# Altium footprint library bobine.PcbLib: 1 footprints
Each footprint in its own frame and in the unit in brackets; x right, y up, seen from the top. Pads: shape width x height; smd on the part's side, far side on the other; paste and mask are expansions set on the pad; w line width, h text height; cw(c..) or ccw(c..) is an arc to the next point about the centre after c.
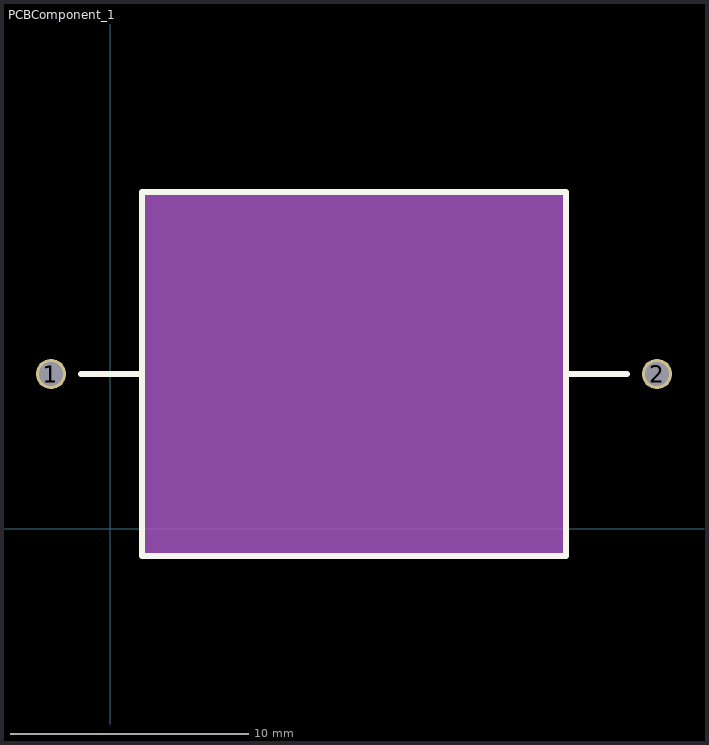
[diagram p0: the footprint, top view; thin cyan lines are the x and y axes]

## PCBComponent_1 [mil]
pads (2):
  round 50 hole 40: 1(-97.8,255) 2(902.2,255)
Top Overlay:
  lines w10: -47.8,255 52.2,255 ; 752.2,255 852.2,255 ; 52.2,255 52.2,-45 752.2,-45 752.2,555 52.2,555 52.2,255
Mechanical 1:
  rectangle: 55,-40 750,550